# Altium schematic symbol library TS5USBC410IYFFR.SchLib: 1 symbol
Pins are listed as number, name and electrical type; pins without a type are passive.

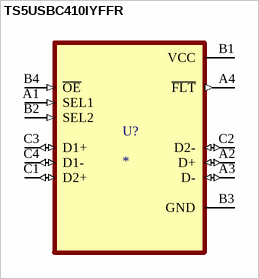
[diagram p0: symbol TS5USBC410IYFFR]

## TS5USBC410IYFFR
designator U?
MP: TS5USBC410IYFFR; MF: {'manufacturer': u'Texas Instruments'}; Package: None; Price: None; Availability: Unavailable; Value: *
footprint BGA12N40P3X4_119X159X62N
pins: A1 SEL1 (in), A2 D+ (io), A3 D- (io), A4 ~{FLT} (out), B1 VCC (power), B2 SEL2 (in), B3 GND (power), B4 ~{OE} (in), C1 D2+ (io), C2 D2- (io), C3 D1+ (io), C4 D1- (io)